# Altium schematic symbol library 智能车驱动板DRV8701E.SCHLIB: 18 symbols
Pins are listed as number, name and electrical type; pins without a type are passive.

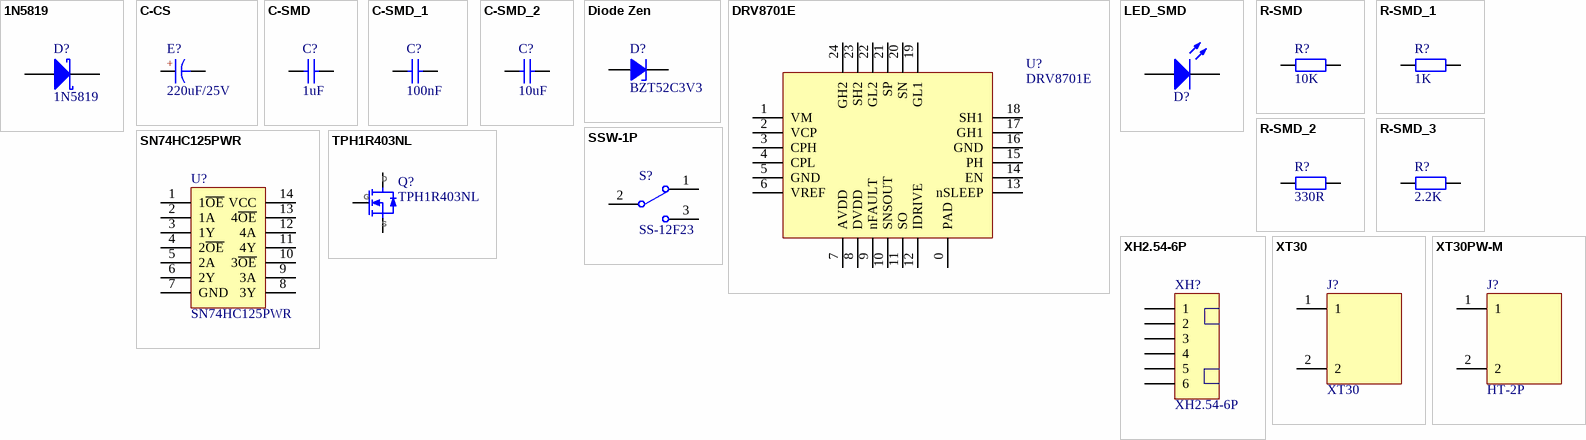
[diagram p0: symbols 1N5819 to XT30PW-M]

## 1N5819
designator D?
肖特基二极管; BOM名称: 肖特基二极管
footprint SOD-323 (1.8x1.3X0.9mm（长宽高，不包括引脚）)
footprint SOD-123 (2.7x1.6X1.1mm（长宽高，不包括引脚） 淘宝ID:黄晶宝石)
pins: 1 A, 2 K

## C-CS
designator E?, comment 220uF/25V
直插固态电容; BOM名称: 直插固态电容
footprint CT 2.0*5*8 - C (脚距2mm , 直径5mm , 高8mm)
footprint CT 2.0*5*8 - R (脚距2mm , 直径5mm , 高8mm)
footprint CT 2.0*5*8 - V (脚距2mm , 直径5mm , 高8mm)
footprint CT 2.5*6.3*7 - C (脚距2.5mm , 直径6.3mm , 高7mm)
footprint CT 2.5*6.3*7 - R (脚距2.5mm , 直径6.3mm , 高7mm)
footprint CT 2.5*6.3*7 - V (脚距2.5mm , 直径6.3mm , 高7mm)
footprint CT 2.5*6.3*11 - C (脚距2.5mm , 直径6.3mm , 高11mm)
footprint CT 2.5*6.3*11 - R (脚距2.5mm , 直径6.3mm , 高11mm)
footprint CT 2.5*6.3*11 - V (脚距2.5mm , 直径6.3mm , 高11mm)
footprint CT 3.5*8*8 - C (脚距3.5mm , 直径8mm , 高8mm)
footprint CT 3.5*8*8 - R (脚距3.5mm , 直径8mm , 高8mm)
footprint CT 3.5*8*8 - V (脚距3.5mm , 直径8mm , 高8mm)
footprint CT 3.5*8*11.5 - C (脚距3.5mm , 直径8mm , 高11.5mm)
footprint CT 3.5*8*11.5 - R (脚距3.5mm , 直径8mm , 高11.5mm)
footprint CT 3.5*8*11.5 - V (脚距3.5mm , 直径8mm , 高11.5mm)
footprint CT 5.0*10*13 - C (脚距5mm , 直径10mm , 高13mm)
footprint CT 5.0*10*13 - R (脚距5mm , 直径10mm , 高13mm)
footprint CT 5.0*10*13 - V (脚距5mm , 直径10mm , 高13mm)
pins: 1, 2
text: +

## C-SMD
designator C?, comment 1uF
贴片电容; BOM名称: 无极性贴片电容
footprint C0201_L (无极性贴片电容)
footprint C0402_L (无极性贴片电容)
footprint C0603_L (无极性贴片电容)
footprint C0805_L (无极性贴片电容)
footprint C1206_L (无极性贴片电容)
footprint C1210_L (无极性贴片电容)
footprint C1808_L (无极性贴片电容)
footprint C1812_L (无极性贴片电容)
footprint C1825_L (无极性贴片电容)
footprint C2225_L (无极性贴片电容)
footprint C0201_M (无极性贴片电容)
footprint C0402_M (无极性贴片电容)
footprint C0603_M (无极性贴片电容)
footprint C0805_M (无极性贴片电容)
footprint C1206_M (无极性贴片电容)
footprint C1210_M (无极性贴片电容)
footprint C1808_M (无极性贴片电容)
footprint C1812_M (无极性贴片电容)
footprint C1825_M (无极性贴片电容)
footprint C2225_M (无极性贴片电容)
pins: 1, 2

## C-SMD_1
designator C?, comment 100nF
贴片电容; BOM名称: 无极性贴片电容
footprint C0201_L (无极性贴片电容)
footprint C0402_L (无极性贴片电容)
footprint C0603_L (无极性贴片电容)
footprint C0805_L (无极性贴片电容)
footprint C1206_L (无极性贴片电容)
footprint C1210_L (无极性贴片电容)
footprint C1808_L (无极性贴片电容)
footprint C1812_L (无极性贴片电容)
footprint C1825_L (无极性贴片电容)
footprint C2225_L (无极性贴片电容)
footprint C0201_M (无极性贴片电容)
footprint C0402_M (无极性贴片电容)
footprint C0603_M (无极性贴片电容)
footprint C0805_M (无极性贴片电容)
footprint C1206_M (无极性贴片电容)
footprint C1210_M (无极性贴片电容)
footprint C1808_M (无极性贴片电容)
footprint C1812_M (无极性贴片电容)
footprint C1825_M (无极性贴片电容)
footprint C2225_M (无极性贴片电容)
pins: 1, 2

## C-SMD_2
designator C?, comment 10uF
贴片电容; BOM名称: 无极性贴片电容
footprint C0201_L (无极性贴片电容)
footprint C0402_L (无极性贴片电容)
footprint C0603_L (无极性贴片电容)
footprint C0805_L (无极性贴片电容)
footprint C1206_L (无极性贴片电容)
footprint C1210_L (无极性贴片电容)
footprint C1808_L (无极性贴片电容)
footprint C1812_L (无极性贴片电容)
footprint C1825_L (无极性贴片电容)
footprint C2225_L (无极性贴片电容)
footprint C0201_M (无极性贴片电容)
footprint C0402_M (无极性贴片电容)
footprint C0603_M (无极性贴片电容)
footprint C0805_M (无极性贴片电容)
footprint C1206_M (无极性贴片电容)
footprint C1210_M (无极性贴片电容)
footprint C1808_M (无极性贴片电容)
footprint C1812_M (无极性贴片电容)
footprint C1825_M (无极性贴片电容)
footprint C2225_M (无极性贴片电容)
pins: 1, 2

## Diode Zen
designator D?, comment BZT52C3V3
3.3V稳压二极管; Published: 8-Jun-2000; Revision: July-2002: Re-released for DXP Platform.; Publisher: Altium Limited; Price(RMB): 0.000
footprint SOD-123 (2.7x1.6X1.1mm（长宽高，不包括引脚） 淘宝ID:黄晶宝石)
pins: A, K

## DRV8701E
designator U?
DRV8701E Ti全桥驱动芯片
footprint QFN24-4*4_M (24脚，长x宽x高：4x4x1mm，脚距：0.5mm)
footprint QFN24-4*4_N (24脚，长x宽x高：4x4x1mm，脚距：0.5mm)
pins: 0 PAD, 1 VM, 2 VCP, 3 CPH, 4 CPL, 5 GND, 6 VREF, 7 AVDD, 8 DVDD, 9 nFAULT, 10 SNSOUT, 11 SO, 12 IDRIVE, 13 nSLEEP, 14 EN, 15 PH, 16 GND, 17 GH1, 18 SH1, 19 GL1, 20 SN, 21 SP, 22 GL2, 23 SH2, 24 GH2

## LED_SMD
designator D?, comment LED  (value not drawn)
贴片发光二极管
footprint LED-0603_R (红色0603LED)
pins: 1 A, 2 K

## R-SMD
designator R?, comment 10K
贴片电阻; BOM名称: 贴片电阻
footprint R0201_L (1/20W贴片电阻)
footprint R0402_L (1/16W贴片电阻)
footprint R0603_L (1/10W贴片电阻)
footprint R0805_L (1/8W贴片电阻)
footprint R1206_L (1/4W贴片电阻)
footprint R1210_L (1/3W贴片电阻)
footprint R1812_L (1/2W贴片电阻)
footprint R2010_L (3/4W贴片电阻)
footprint R2512_L (1W贴片电阻)
footprint R0201_M (1/20W贴片电阻)
footprint R0402_M (1/16W贴片电阻)
footprint R0603_M (1/10W贴片电阻)
footprint R0805_M (1/8W贴片电阻)
footprint R1206_M (1/4W贴片电阻)
footprint R1210_M (1/3W贴片电阻)
footprint R1812_M (1/2W贴片电阻)
footprint R2010_M (3/4W贴片电阻)
footprint R2512_M (1W贴片电阻)
pins: 1, 2

## R-SMD_1
designator R?, comment 1K
贴片电阻; BOM名称: 贴片电阻
footprint R0201_L (1/20W贴片电阻)
footprint R0402_L (1/16W贴片电阻)
footprint R0603_L (1/10W贴片电阻)
footprint R0805_L (1/8W贴片电阻)
footprint R1206_L (1/4W贴片电阻)
footprint R1210_L (1/3W贴片电阻)
footprint R1812_L (1/2W贴片电阻)
footprint R2010_L (3/4W贴片电阻)
footprint R2512_L (1W贴片电阻)
footprint R0201_M (1/20W贴片电阻)
footprint R0402_M (1/16W贴片电阻)
footprint R0603_M (1/10W贴片电阻)
footprint R0805_M (1/8W贴片电阻)
footprint R1206_M (1/4W贴片电阻)
footprint R1210_M (1/3W贴片电阻)
footprint R1812_M (1/2W贴片电阻)
footprint R2010_M (3/4W贴片电阻)
footprint R2512_M (1W贴片电阻)
pins: 1, 2

## R-SMD_2
designator R?, comment 330R
贴片电阻; BOM名称: 贴片电阻
footprint R0201_L (1/20W贴片电阻)
footprint R0402_L (1/16W贴片电阻)
footprint R0603_L (1/10W贴片电阻)
footprint R0805_L (1/8W贴片电阻)
footprint R1206_L (1/4W贴片电阻)
footprint R1210_L (1/3W贴片电阻)
footprint R1812_L (1/2W贴片电阻)
footprint R2010_L (3/4W贴片电阻)
footprint R2512_L (1W贴片电阻)
footprint R0201_M (1/20W贴片电阻)
footprint R0402_M (1/16W贴片电阻)
footprint R0603_M (1/10W贴片电阻)
footprint R0805_M (1/8W贴片电阻)
footprint R1206_M (1/4W贴片电阻)
footprint R1210_M (1/3W贴片电阻)
footprint R1812_M (1/2W贴片电阻)
footprint R2010_M (3/4W贴片电阻)
footprint R2512_M (1W贴片电阻)
pins: 1, 2

## R-SMD_3
designator R?, comment 2.2K
贴片电阻; BOM名称: 贴片电阻
footprint R0201_L (1/20W贴片电阻)
footprint R0402_L (1/16W贴片电阻)
footprint R0603_L (1/10W贴片电阻)
footprint R0805_L (1/8W贴片电阻)
footprint R1206_L (1/4W贴片电阻)
footprint R1210_L (1/3W贴片电阻)
footprint R1812_L (1/2W贴片电阻)
footprint R2010_L (3/4W贴片电阻)
footprint R2512_L (1W贴片电阻)
footprint R0201_M (1/20W贴片电阻)
footprint R0402_M (1/16W贴片电阻)
footprint R0603_M (1/10W贴片电阻)
footprint R0805_M (1/8W贴片电阻)
footprint R1206_M (1/4W贴片电阻)
footprint R1210_M (1/3W贴片电阻)
footprint R1812_M (1/2W贴片电阻)
footprint R2010_M (3/4W贴片电阻)
footprint R2512_M (1W贴片电阻)
pins: 1, 2

## SN74HC125PWR
designator U?
三态输出的四路缓冲器
footprint TSSOP14
footprint TSSOP14_L (5*6.4*1mm（长宽高）)
footprint TSSOP14_M (5*6.4*1mm（长宽高）)
footprint TSSOP14_N (5*6.4*1mm（长宽高） 封装库来自淘宝卖家 ID：黄晶宝石)
pins: 1 1~{OE}, 2 1A, 3 1Y, 4 2~{OE}, 5 2A, 6 2Y, 7 GND, 8 3Y, 9 3A, 10 3~{OE}, 11 4Y, 12 4A, 13 4~{OE}, 14 VCC

## SSW-1P
designator S?, comment SS-12F23
1路波动开关; BOM名称: 波动开关
footprint SS-12F23
footprint SS-12D10
footprint MSK-12C01-07 (6.7*2.8*1.5mm(长宽高）)
footprint MSK-12C01-07 (6.7*2.8*1.5mm(长宽高）)
pins: 1, 2, 3

## TPH1R403NL
designator Q?
N沟道MOS
footprint DFN5x6
pins: 1 D, 2 G, 3 S

## XH2.54-6P
designator XH?
footprint XH2.54-6P-LI (接插件，6P)
footprint XH2.54-6P-LS (长：20mm，宽：6mm，高：8.3mm)
footprint XH2.54-6P-WI (接插件，6P)
footprint XH2.54-6P-LWS (Footprint not found)
footprint XH2.54-6P-WI_L
pins: 1, 2, 3, 4, 5, 6

## XT30
designator J?
30A Low Temperature Rise Fire Retardant Plug; Manufacturer_Name: Amass; Manufacturer_Part_Number: XT30PW-M; Geometry.Height: 5mm; Mouser Part Number: *; Mouser Price/Stock: *; Arrow Part Number: *; Arrow Price/Stock: *; Datasheet Link: https://www.tme.eu/sl/Document/ce4077e36b79046da520ca73227e15de/XT30PW%20SPEC.pdf
footprint XT30-WI
footprint XT30-M
pins: 1, 2

## XT30PW-M
designator J?, comment HT-2P
30A Low Temperature Rise Fire Retardant Plug; Manufacturer_Name: Amass; Manufacturer_Part_Number: XT30PW-M; Geometry.Height: 5mm; Mouser Part Number: *; Mouser Price/Stock: *; Arrow Part Number: *; Arrow Price/Stock: *; Datasheet Link: https://www.tme.eu/sl/Document/ce4077e36b79046da520ca73227e15de/XT30PW%20SPEC.pdf
footprint XT30-WI
footprint CZ-5.08-L-Z-2P
pins: 1, 2